# Altium footprint library linear.PCBLIB: 119 footprints (part 7 of 8)
Each footprint in its own frame and in the unit in brackets; x right, y up, seen from the top. Pads: shape width x height; smd on the part's side, far side on the other; paste and mask are expansions set on the pad; w line width, h text height; cw(c..) or ccw(c..) is an arc to the next point about the centre after c.
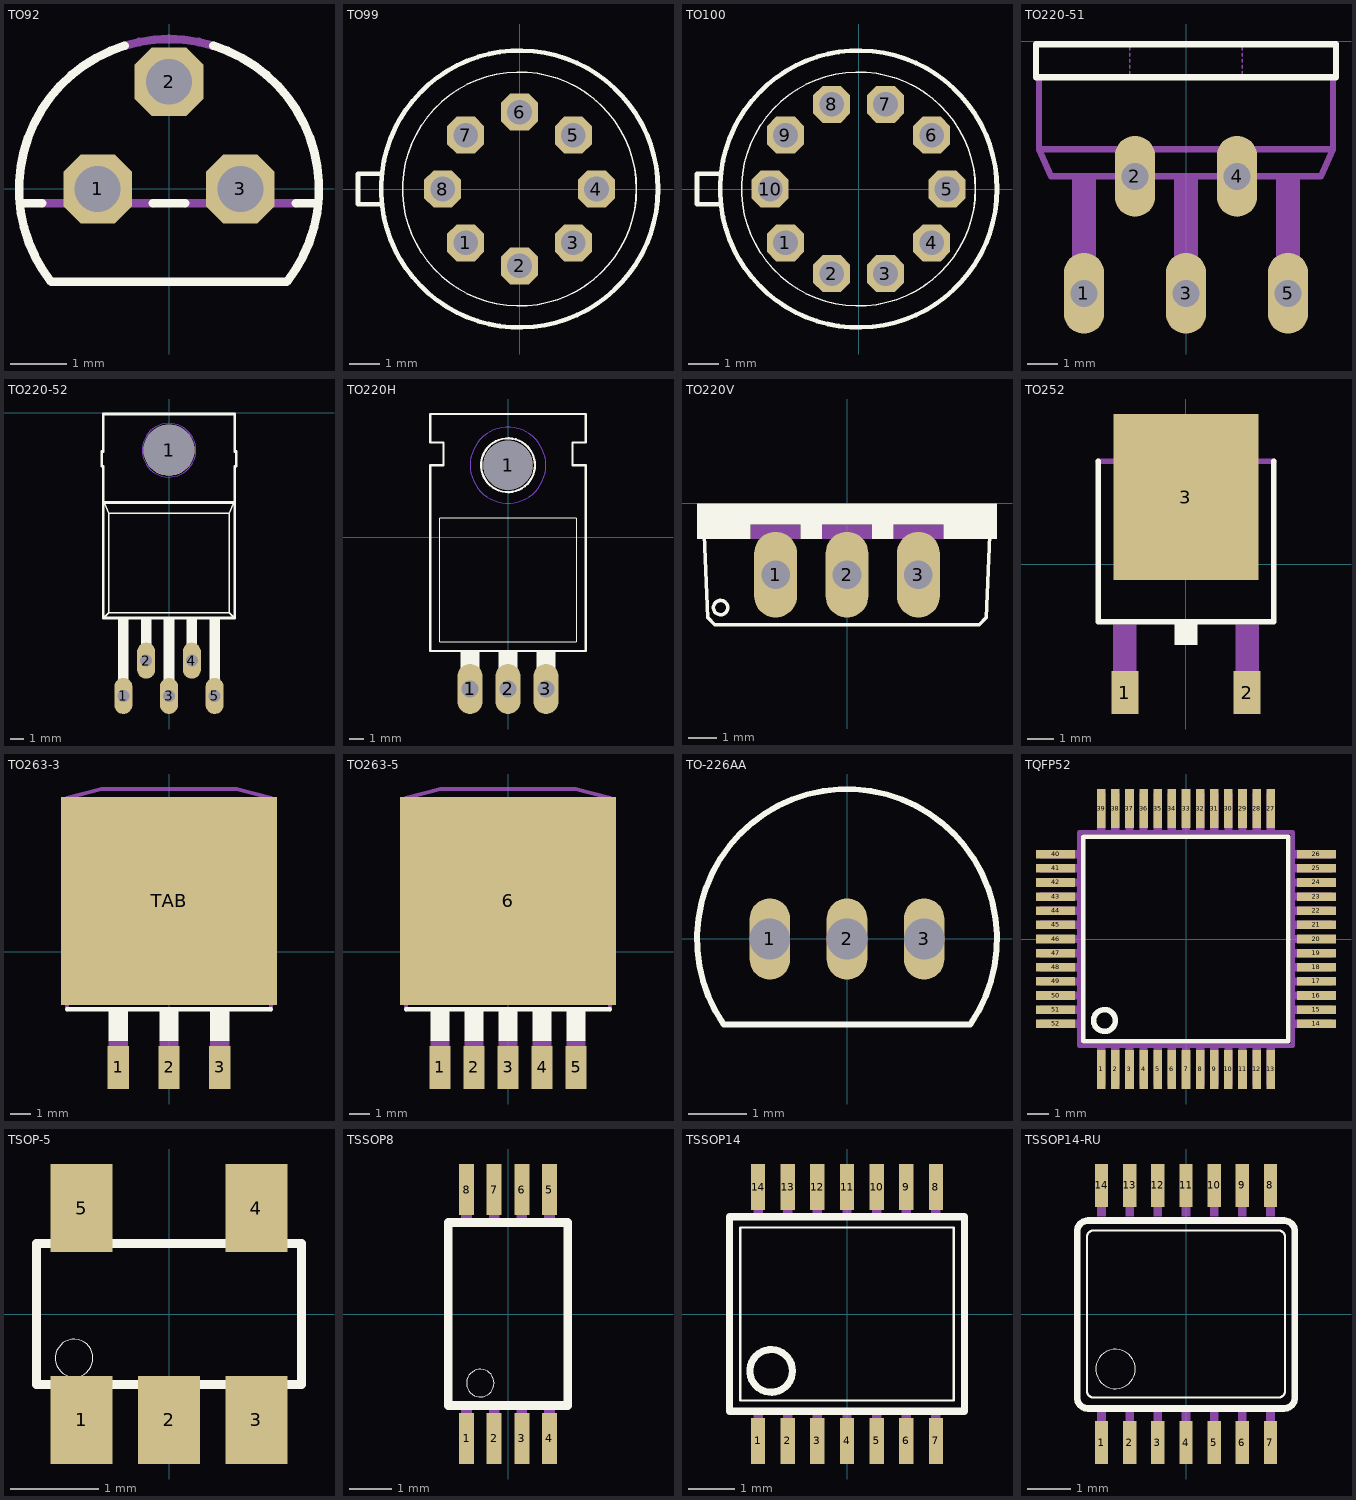
[diagram p6: the footprints below, top view; thin cyan lines are the x and y axes]

## TO92 [mil]
pads (3):
  oct 48x48 hole 32: 1(-50,0) 2(0,75) 3(50,0)
Top Overlay:
  lines w6: -104.53,-10 -88.74,-10 ; -30.98,100.33 ccw(c-0.02,0) -82.48,-65 82.48,-65 ccw(c0.02,0) 30.98,100.33 ; -11.26,-10 11.26,-10 ; 88.74,-10 104.53,-10
Mechanical 16:
  lines w6: -88.74,-10 -11.26,-10 ; -30.96,100.33 cw(c0,0) 30.96,100.33 ; 11.26,-10 88.74,-10

## TO99 [mil]
pads (8):
  oct 48x48 hole 32: 1(-70,-70) 2(0,-100) 3(70,-70) 4(100,0) 5(70,70) 6(0,100) 7(-70,70) 8(-100,0)
Top Overlay:
  circle w6: c0,0 r180
  circle w2: c0,0 r152
  lines w6: -180,-20 -210,-20 -210,20 -180,20

## TO100 [mil]
pads (10):
  oct 48x48 hole 32: 1(-95,-70) 2(-35,-110) 3(35,-110) 4(95,-70) 5(115,0) 6(95,70) 7(35,110) 8(-35,110) 9(-95,70) 10(-115,0)
Top Overlay:
  circle w6: c0,0 r180
  circle w2: c0,0 r152
  lines w6: -180,-20 -210,-20 -210,20 -180,20

## TO220-51 [mil]
pads (5):
  oval 53.15x106.29 hole 35.43: 1(-133.86,-330.71) 2(-66.93,-177.17) 3(0,-330.71) 4(66.93,-177.17) 5(133.86,-330.71)
Top Overlay:
  lines w8: -196.85,-47.24 -196.85,-3.94 196.85,-3.94 196.85,-47.24 -196.85,-47.24
Mechanical 16:
  rectangle: -149.61,-338.58 -118.11,-295.28
  rectangle: -15.75,-338.58 15.75,-295.28
  rectangle: 118.11,-338.58 149.61,-295.28
  rectangle: -149.61,-295.28 -118.11,-177.17
  rectangle: -15.75,-295.28 15.75,-177.17
  rectangle: 118.11,-295.28 149.61,-177.17
  rectangle: -82.68,-185.04 -51.18,-177.17
  rectangle: 51.18,-185.04 82.68,-177.17
  lines w2: -73.62,-46.06 -73.62,-39.37 ; -73.62,-35.43 -73.62,-31.5 ; -73.62,-27.56 -73.62,-23.62 ; -73.62,-19.69 -73.62,-15.75 ; -73.62,-11.81 -73.62,-7.87 ; 73.62,-46.06 73.62,-39.37 ; 73.62,-35.43 73.62,-31.5 ; 73.62,-27.56 73.62,-23.62 ; 73.62,-19.69 73.62,-15.75 ; 73.62,-11.81 73.62,-7.87
  lines w8: -192.91,-47.24 -192.91,-141.73 ; 192.91,-47.24 192.91,-141.73 ; -192.91,-141.73 -177.17,-177.17 177.17,-177.17 192.91,-141.73 ; -192.91,-141.73 192.91,-141.73

## TO220-52 [mil]
pads (6):
  oval 53.15x106.29 hole 35.43: 1(-133.86,-830.71) 2(-66.93,-727.17) 3(0,-830.71) 4(66.93,-727.17) 5(133.86,-830.71)
  round 149.61 hole 149.61: 1(0,-110.24)
Top Layer keep-out:
  circle w0: c0,-110.24 r78.74
Bottom Layer keep-out:
  circle w0: c0,-110.24 r78.74
Top Overlay:
  rectangle: -149.61,-791.34 -118.11,-602.36
  rectangle: -82.68,-688.98 -51.18,-602.36
  rectangle: -15.75,-791.34 15.75,-602.36
  rectangle: 51.18,-688.98 82.68,-602.36
  rectangle: 118.11,-791.34 149.61,-602.36
  lines w4: -192.91,-602.36 -177.17,-586.61 ; -188.98,-267.72 -177.17,-295.28 ; 188.98,-267.72 177.17,-295.28 ; 192.91,-602.36 177.17,-586.61 ; -177.17,-586.61 177.17,-586.61 ; -177.17,-586.61 -177.17,-295.28 ; -177.17,-295.28 177.17,-295.28 ; 177.17,-586.61 177.17,-295.28
  lines w8: -196.85,-157.48 -196.85,-114.17 ; -192.91,-157.48 -192.91,-263.78 ; -192.91,-114.17 -192.91,-3.94 192.91,-3.94 192.91,-114.17 ; 192.91,-157.48 192.91,-263.78 ; 196.85,-157.48 196.85,-114.17 ; -192.91,-263.78 -192.91,-602.36 192.91,-602.36 192.91,-263.78 ; -192.91,-263.78 192.91,-263.78
Mechanical 16:
  rectangle: -149.61,-838.58 -118.11,-791.34
  rectangle: -82.68,-736.22 -51.18,-688.98
  rectangle: -15.75,-838.58 15.75,-791.34
  rectangle: 51.18,-736.22 82.68,-688.98
  rectangle: 118.11,-838.58 149.61,-791.34
Via Holes:
  circle w0: c0,-110.24 r106.3

## TO220H [mil]
pads (4):
  oval 66x132 hole 44: 1(-100,-400) 2(0,-400) 3(100,-400)
  round 130 hole 130: 1(0,190)
Bottom Layer keep-out:
  circle w0: c0,190 r100
Top Overlay:
  circle w6: c0,190 r71
  rectangle: 85,-435 115,-410
  rectangle: -15,-435 15,-410
  rectangle: -115,-435 -85,-410
  rectangle: -125,-410 -75,-300
  rectangle: -25,-410 25,-300
  rectangle: 75,-410 125,-300
  lines w2: -180,-275 180,-275 180,50 -180,50 -180,-275
  lines w6: -205,-300 205,-300 205,190 170,190 170,250 205,250 205,325 -205,325 -205,250 -170,250 -170,190 -205,190 -205,-300
Via Holes:
  circle w0: c0,190 r100

## TO220V [mil]
pads (3):
  oval 60x120 hole 40: 1(-100,-100) 2(0,-100) 3(100,-100)
Top Overlay:
  circle w5: c-177,-146 r10
  rectangle: -210,-30 210,0
  rectangle: -210,-50 -135,-30
  rectangle: -65,-50 -35,-30
  rectangle: 35,-50 65,-30
  rectangle: 135,-50 210,-30
  lines w5: -200,-45 -195,-160 -185,-170 185,-170 195,-160 200,-45
Mechanical 16:
  rectangle: -135,-50 -65,-30
  rectangle: -35,-50 35,-30
  rectangle: 65,-50 135,-30
  text "1" at -125,-125 h77.5
  text "2" at -25,-125 h77.5
  text "3" at 75,-125 h77.5

## TO252 [mm]
pads (3):
  rect 1x1.6 smd: 1(-2.28,-4.8) 2(2.28,-4.8)
  rect 5.4x6.2 smd: 3(0,2.5)
Top Overlay:
  rectangle: -0.432,-3.023 0.432,-2.261
  lines w0.203: -3.277,3.835 -3.277,-2.159 3.277,-2.159 3.277,3.835
Mechanical 16:
  rectangle: -2.718,-5.156 -1.854,-2.261
  rectangle: 1.854,-5.156 2.718,-2.261
  region: 0,0 0.254,0 0.254,0.254 0,0.254
  lines w0.203: -3.277,3.835 3.277,3.835 ; -2.565,3.937 -2.565,4.648 -2.108,5.105 2.108,5.105 2.565,4.648 2.565,3.937 -2.565,3.937

## TO263-3 [mil]
pads (4):
  rect 42x85 smd: 1(-100,-228) 2(0,-228) 3(100,-228)
  rect 425.2x409.84 smd: TAB(0,100)
Top Overlay:
  rectangle: -19,-176 19,-110
  rectangle: -119,-176 -81,-110
  rectangle: 81,-176 119,-110
  lines w8: -200.55,-113.39 200.55,-113.39
Mechanical 16:
  rectangle: -19,-260 19,-175
  rectangle: -119,-260 -81,-175
  rectangle: 81,-260 119,-175
  region: 0,0 10,0 10,10 0,10
  lines w8: -200.55,-113.39 -200.55,282.09 200.55,282.09 200.55,-113.39 ; -200.98,286.1 -200.98,302.28 -132.99,320.28 132.99,320.28 200.98,302.28 200.98,286.1 -200.98,286.1

## TO263-5 [mil]
pads (6):
  rect 42x85 smd: 1(-134,-228) 2(-67,-228) 3(0,-228) 4(67,-228) 5(134,-228)
  rect 425.2x409.84 smd: 6(0,100)
Top Overlay:
  rectangle: -153,-176 -115,-110
  rectangle: -86,-176 -48,-110
  rectangle: -19,-176 19,-110
  rectangle: 48,-176 86,-110
  rectangle: 115,-176 153,-110
  lines w8: -200.55,-113.39 200.55,-113.39
Mechanical 16:
  rectangle: -153,-260 -115,-175
  rectangle: -86,-260 -48,-175
  rectangle: -19,-260 19,-175
  rectangle: 48,-260 86,-175
  rectangle: 115,-260 153,-175
  region: 0,0 10,0 10,10 0,10
  lines w8: -200.55,-113.39 -200.55,282.09 200.55,282.09 200.55,-113.39 ; -200.98,286.1 -200.98,302.28 -132.99,320.28 132.99,320.28 200.98,302.28 200.98,286.1 -200.98,286.1

## TO-226AA [mil]
pads (3):
  oval 27.56x55.12 hole 27.56: 1(-52.36,0) 2(0,0) 3(52.36,0)
Top Overlay:
  lines w4: -83.66,-58.07 cw(c0,0) 83.66,-58.07 -83.66,-58.07

## TQFP52 [mm]
pads (52):
  rect 0.4x1.8 smd: 1(-3.9,-6) 2(-3.25,-6) 3(-2.6,-6) 4(-1.95,-6) 5(-1.3,-6) 6(-0.65,-6) 7(0,-6) 8(0.65,-6) 9(1.3,-6) 10(1.95,-6) 11(2.6,-6) 12(3.25,-6) 13(3.9,-6) 27(3.9,6) 28(3.25,6) 29(2.6,6) 30(1.95,6) 31(1.3,6) 32(0.65,6) 33(0,6) 34(-0.65,6) 35(-1.3,6) 36(-1.95,6) 37(-2.6,6) 38(-3.25,6) 39(-3.9,6)
  rect 1.8x0.4 smd: 14(6,-3.9) 15(6,-3.25) 16(6,-2.6) 17(6,-1.95) 18(6,-1.3) 19(6,-0.65) 20(6,0) 21(6,0.65) 22(6,1.3) 23(6,1.95) 24(6,2.6) 25(6,3.25) 26(6,3.9) 40(-6,3.9) 41(-6,3.25) 42(-6,2.6) 43(-6,1.95) 44(-6,1.3) 45(-6,0.65) 46(-6,0) 47(-6,-0.65) 48(-6,-1.3) 49(-6,-1.95) 50(-6,-2.6) 51(-6,-3.25) 52(-6,-3.9)
Top Overlay:
  circle w0.254: c-3.75,-3.75 r0.5
  lines w0.203: -4.72,-4.71 4.71,-4.71 4.71,4.71 -4.72,4.71 -4.72,-4.71
Mechanical 16:
  rectangle: -4.09,-6.72 -3.71,-4.95
  rectangle: -3.44,-6.72 -3.06,-4.95
  rectangle: -2.79,-6.72 -2.41,-4.95
  rectangle: -2.14,-6.72 -1.76,-4.95
  rectangle: -1.49,-6.72 -1.11,-4.95
  rectangle: -0.84,-6.72 -0.46,-4.95
  rectangle: -0.19,-6.72 0.19,-4.95
  rectangle: 0.46,-6.72 0.84,-4.95
  rectangle: 1.11,-6.72 1.49,-4.95
  rectangle: 1.76,-6.72 2.14,-4.95
  rectangle: 2.41,-6.72 2.79,-4.95
  rectangle: 3.06,-6.72 3.44,-4.95
  rectangle: 3.71,-6.72 4.09,-4.95
  rectangle: 4.95,-4.09 6.72,-3.71
  rectangle: 4.95,-3.44 6.72,-3.06
  rectangle: 4.95,-2.79 6.72,-2.41
  rectangle: 4.95,-2.14 6.72,-1.76
  rectangle: 4.95,-1.49 6.72,-1.11
  rectangle: 4.95,-0.84 6.72,-0.46
  rectangle: 4.95,-0.19 6.72,0.19
  rectangle: 4.95,0.46 6.72,0.84
  rectangle: 4.95,1.11 6.72,1.49
  rectangle: 4.95,1.76 6.72,2.14
  rectangle: 4.95,2.41 6.72,2.79
  rectangle: 4.95,3.06 6.72,3.44
  rectangle: 4.95,3.71 6.72,4.09
  rectangle: 3.71,4.95 4.09,6.72
  rectangle: 3.06,4.95 3.44,6.72
  rectangle: 2.41,4.95 2.79,6.72
  rectangle: 1.76,4.95 2.14,6.72
  rectangle: 1.11,4.95 1.49,6.72
  rectangle: 0.46,4.95 0.84,6.72
  rectangle: -0.19,4.95 0.19,6.72
  rectangle: -0.84,4.95 -0.46,6.72
  rectangle: -1.49,4.95 -1.11,6.72
  rectangle: -2.14,4.95 -1.76,6.72
  rectangle: -2.79,4.95 -2.41,6.72
  rectangle: -3.44,4.95 -3.06,6.72
  rectangle: -4.09,4.95 -3.71,6.72
  rectangle: -6.72,3.71 -4.95,4.09
  rectangle: -6.72,3.06 -4.95,3.44
  rectangle: -6.72,2.41 -4.95,2.79
  rectangle: -6.72,1.76 -4.95,2.14
  rectangle: -6.72,1.11 -4.95,1.49
  rectangle: -6.72,0.46 -4.95,0.84
  rectangle: -6.72,-0.19 -4.95,0.19
  rectangle: -6.72,-0.84 -4.95,-0.46
  rectangle: -6.72,-1.49 -4.95,-1.11
  rectangle: -6.72,-2.14 -4.95,-1.76
  rectangle: -6.72,-2.79 -4.95,-2.41
  rectangle: -6.72,-3.44 -4.95,-3.06
  rectangle: -6.72,-4.09 -4.95,-3.71
  lines w0.203: -4.91,-4.91 4.91,-4.91 4.91,4.91 -4.91,4.91 -4.91,-4.91

## TSOP-5 [mm]
pads (5):
  rect 0.7x1 smd: 1(-0.99,-1.2) 2(0,-1.2) 3(0.99,-1.2) 4(0.99,1.2) 5(-0.99,1.2)
Top Overlay:
  circle w0: c-1.075,-0.5 r0.214
  lines w0.102: -1.5,-0.8 1.5,-0.8 1.5,0.8 -1.5,0.8 -1.5,-0.8
Mechanical 16:
  rectangle: -1.2,0.825 -0.7,1.5
  rectangle: 0.7,0.825 1.2,1.5
  rectangle: 0.7,-1.5 1.2,-0.825
  rectangle: -0.25,-1.5 0.25,-0.825
  rectangle: -1.2,-1.5 -0.7,-0.825

## TSSOP8 [mm]
pads (8):
  rect 0.35x1.2 smd: 1(-0.975,-2.925) 2(-0.325,-2.925) 3(0.325,-2.925) 4(0.975,-2.925) 5(0.975,2.925) 6(0.325,2.925) 7(-0.325,2.925) 8(-0.975,2.925)
Top Overlay:
  circle w0: c-0.65,-1.625 r0.325
  lines w0.203: -1.4,-2.15 -1.4,2.15 1.4,2.15 1.4,-2.15 -1.4,-2.15
Mechanical 16:
  rectangle: -1.1,-3.2 -0.85,-2.2
  rectangle: -0.45,-3.2 -0.2,-2.2
  rectangle: 0.2,-3.2 0.45,-2.2
  rectangle: 0.85,-3.2 1.1,-2.2
  rectangle: 0.85,2.2 1.1,3.2
  rectangle: 0.2,2.2 0.45,3.2
  rectangle: -0.45,2.2 -0.2,3.2
  rectangle: -1.1,2.2 -0.85,3.2

## TSSOP14 [mil]
pads (14):
  rect 12x39 smd: 1(-75,-107) 2(-50,-107) 3(-25,-107) 4(0,-107) 5(25,-107) 6(50,-107) 7(75,-107) 8(75,107) 9(50,107) 10(25,107) 11(0,107) 12(-25,107) 13(-50,107) 14(-75,107)
Top Overlay:
  circle w6: c-64,-48 r18
  lines w2: -90,-73 90,-73 90,73 -90,73 -90,-73
  lines w6: -99,-82 99,-82 99,82 -99,82 -99,-82
Mechanical 16:
  rectangle: 71,83 79,116
  rectangle: 46,83 54,116
  rectangle: 21,83 29,116
  rectangle: -4,83 4,116
  rectangle: -29,83 -21,116
  rectangle: -54,83 -46,116
  rectangle: -79,83 -71,116
  rectangle: -79,-115 -71,-82
  rectangle: -54,-115 -46,-82
  rectangle: -29,-115 -21,-82
  rectangle: -4,-115 4,-82
  rectangle: 21,-115 29,-82
  rectangle: 46,-115 54,-82
  rectangle: 71,-115 79,-82

## TSSOP14-RU [mil]
pads (14):
  rect 12x39 smd: 1(-76.77,-116.84) 2(-51.18,-116.84) 3(-25.59,-116.84) 4(0,-116.84) 5(25.59,-116.84) 6(51.18,-116.84) 7(76.77,-116.84) 8(76.77,116.84) 9(51.18,116.84) 10(25.59,116.84) 11(0,116.84) 12(-25.59,116.84) 13(-51.18,116.84) 14(-76.77,116.84)
Top Overlay:
  circle w0: c-64,-49.97 r18
  lines w2: -90,-70.05 ccw(c-84.09,-70.05) -84.09,-75.95 84.09,-75.95 ccw(c84.09,-70.05) 90,-70.05 90,70.05 ccw(c84.09,70.05) 84.09,75.95 -84.09,75.95 ccw(c-84.09,70.05) -90,70.05 -90,-70.05
  lines w6: -99,-75.94 ccw(c-89,-75.94) -89,-85.94 89,-85.94 ccw(c89,-75.94) 99,-75.94 99,74.95 ccw(c89,74.95) 89,84.95 -89,84.95 ccw(c-89,74.95) -99,74.95 -99,-75.94
Mechanical 16:
  rectangle: -80.77,-125.98 -72.77,-88.58
  rectangle: -55.18,-125.98 -47.18,-88.58
  rectangle: -29.59,-125.98 -21.59,-88.58
  rectangle: -4,-125.98 4,-88.58
  rectangle: 21.59,-125.98 29.59,-88.58
  rectangle: 47.18,-125.98 55.18,-88.58
  rectangle: 72.77,-125.98 80.77,-88.58
  region: 80.77,125.98 72.77,125.98 72.77,88.58 80.77,88.58
  region: 55.18,125.98 47.18,125.98 47.18,88.58 55.18,88.58
  region: 29.59,125.98 21.59,125.98 21.59,88.58 29.59,88.58
  region: 4,125.98 -4,125.98 -4,88.58 4,88.58
  region: -21.59,125.98 -29.59,125.98 -29.59,88.58 -21.59,88.58
  region: -47.18,125.98 -55.18,125.98 -55.18,88.58 -47.18,88.58
  region: -72.77,125.98 -80.77,125.98 -80.77,88.58 -72.77,88.58